# EAGLE library part TPSM863252RDXR (library My_Library)
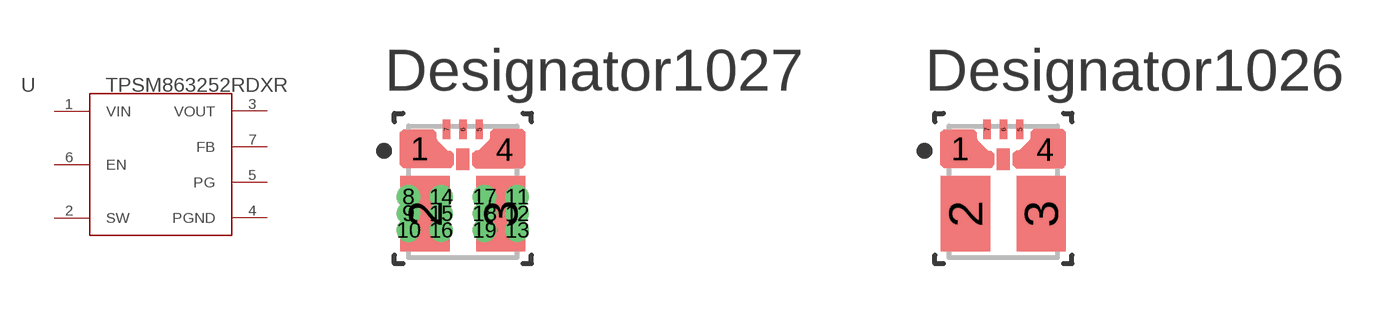
[diagram p32: symbol with the pads of RDX0007A-MFG; footprints RDX0007A-MFG, RDX0007A-MFG_NOVIA]

Designator prefix U

## TPSM863252RDXR (COPYRIGHT: Copyright (C) 2025 Ultra Librarian. All rights reserved.; MANUFACTURER_PART_NUMBER: TPSM863252RDXR; MFR_NAME: Texas Instruments; REFDES: RefDes; TYPE: TYPE)  [RDX0007A-MFG]
1  VIN  pwr
2  SW  pas
3  VOUT  pwr
4  PGND  pwr
5  PG  oc
6  EN  in
7  FB  pas

## TPSM863252RDXRRDX0007A-MFG_NOVIA (COPYRIGHT: Copyright (C) 2025 Ultra Librarian. All rights reserved.; MANUFACTURER_PART_NUMBER: TPSM863252RDXR; MFR_NAME: Texas Instruments; REFDES: RefDes; TYPE: TYPE)  [RDX0007A-MFG_NOVIA]
Pads as for RDX0007A-MFG

## Footprint RDX0007A-MFG (pad centres in mm)
smd 1.025 x 1.025: 1 -1.312,1.312
smd 1.5 x 2.3: 2 -1.15,-0.675; 3 1.15,-0.675
smd 0.991 x 0.991: 4 1.281,1.276
smd 0.22 x 0.6: 5 0.5,1.9; 6 0,1.9; 7 -0.5,1.9
drill 0.203 pad 0.508: 8 -1.651,-0.152; 9 -1.651,-0.66; 10 -1.651,-1.168; 11 1.651,-0.152; 12 1.651,-0.66; 13 1.651,-1.168; 14 -0.66,-0.152; 15 -0.66,-0.66; 16 -0.66,-1.168; 17 0.66,-0.152; 18 0.66,-0.66; 19 0.66,-1.168

## Footprint RDX0007A-MFG_NOVIA (pad centres in mm)
smd 1.025 x 1.025: 1 -1.312,1.312
smd 1.5 x 2.3: 2 -1.15,-0.675; 3 1.15,-0.675
smd 0.991 x 0.991: 4 1.281,1.276
smd 0.22 x 0.6: 5 0.5,1.9; 6 0,1.9; 7 -0.5,1.9